# Altium schematic symbol library RES-TEST.SchLib: 1 symbol
Pins are listed as number, name and electrical type; pins without a type are passive.

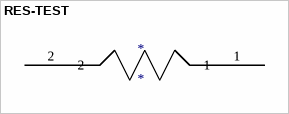
[diagram p0: symbol RES-TEST]

## RES-TEST
designator *
footprint RES-TEST
pins: 1, 2